# Altium schematic symbol library Relay.SchLib: 29 symbols
Pins are listed as number, name and electrical type; pins without a type are passive.

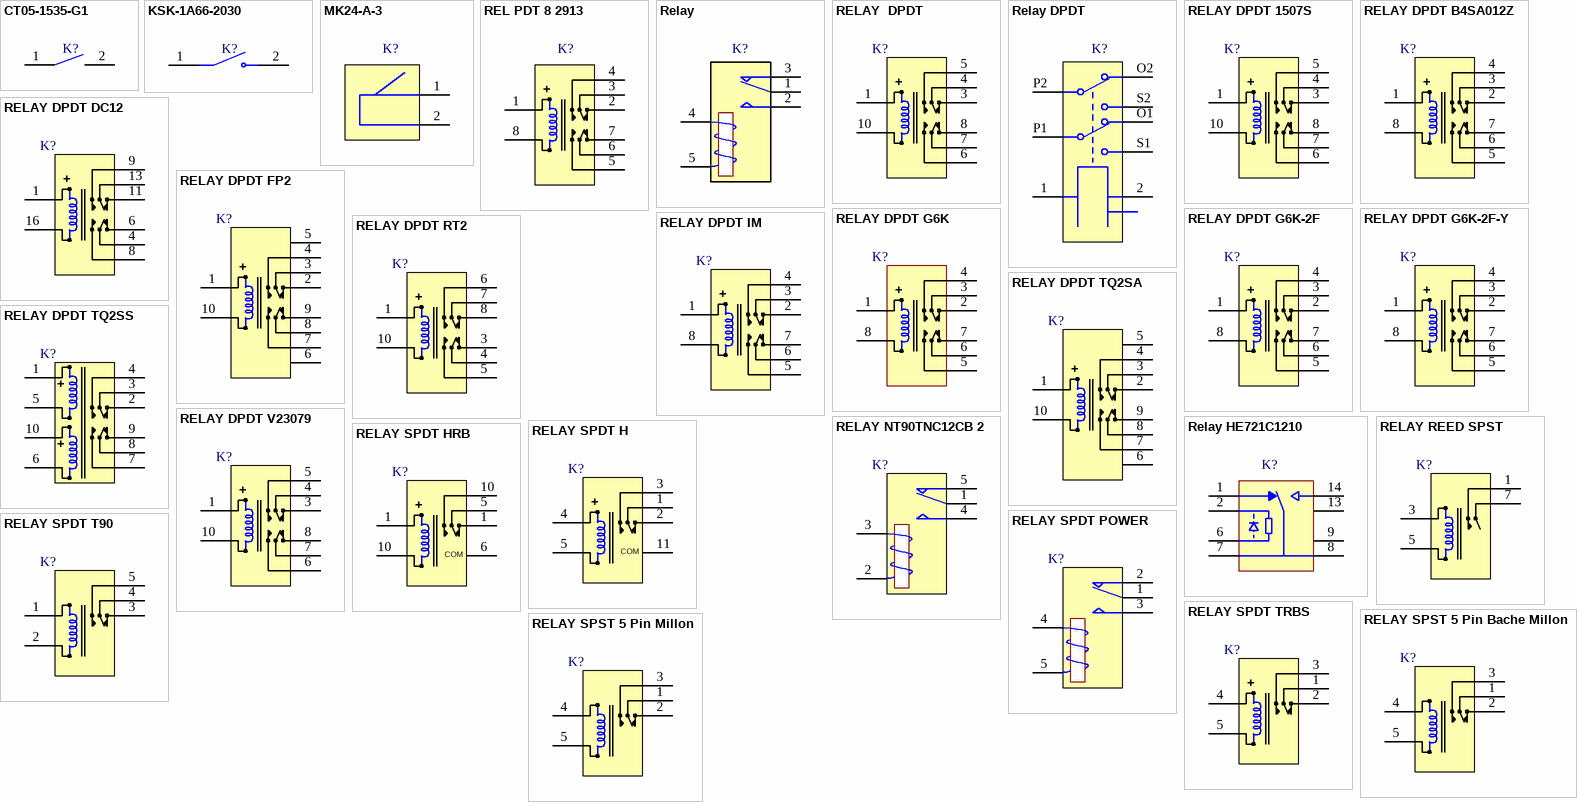
[diagram p0: symbols CT05-1535-G1 to RELAY SPST 5 Pin Millon]

## CT05-1535-G1
designator K?
Molded Body Reed Switch SPST-NO 15 ~ 35AT Operate Range 5W 250mA (AC), 350mA (DC) 100V Surface Mount; DatasheetVersion: 2022
pins: 1, 2

## KSK-1A66-2030
designator K?
Glass Body Reed Switch SPST-NO 20 ~ 30AT Operate Range 10W 500mA _AC/DC_ 180V Through Hole; DatasheetVersion: 2022
pins: 1, 2

## MK24-A-3
designator K?
Molded Body Reed Switch SPST-NO 23 ~ 50AT Operate Range 1W 100mA _AC/DC_ 30V Surface Mount; DatasheetVersion: 2022
pins: 1, 2

## REL PDT 8 2913
designator K?
DatasheetVersion: 2022
pins: 1 T1, 2 NC1, 3 COM1, 4 NO1, 5 NO2, 6 COM2, 7 NC1, 8 T2

## Relay
designator K?
SPDT Relay; DatasheetVersion: 2022; ComponentLinkp-URL: https://www.smartw.ir/
pins: 1 COM, 2 NO, 3 NC, 4 T1, 5 T2

## RELAY  DPDT
designator K?
Relay; ComponentLinkp-URL: https://www.smartw.ir/; DatasheetVersion: 2022
pins: 1 T1, 3 NC1, 4 COM1, 5 NO1, 6 NO2, 7 COM2, 8 NC1, 10 T2

## Relay DPDT
designator K?
Dual-Pole Dual-Throw Relay; ComponentLinkp-URL: https://www.smartw.ir/; DatasheetVersion: 2022
pins: 1, 2, O1, O2, P1, P2, S1, S2

## RELAY DPDT 1507S
designator K?
Relay; ComponentLinkp-URL: https://www.smartw.ir/; DatasheetVersion: 2022
pins: 1 T1, 3 NC1, 4 COM1, 5 NO1, 6 NO2, 7 COM2, 8 NC1, 10 T2

## RELAY DPDT B4SA012Z
designator K?
Relay; DatasheetVersion: 2022; ComponentLinkp-URL: https://www.smartw.ir/
pins: 1 T1, 2 NC1, 3 COM1, 4 NO1, 5 NO2, 6 COM2, 7 NC1, 8 T2

## RELAY DPDT DC12
designator K?
Relay; ComponentLinkp-URL: https://www.smartw.ir/; DatasheetVersion: 2022
pins: 1 T1, 4 COM2, 6 NC1, 8 NO2, 9 NO1, 11 NC1, 13 COM1, 16 T2

## RELAY DPDT FP2
designator K?
Relay; ComponentLinkp-URL: https://www.smartw.ir/; DatasheetVersion: 2022
pins: 1 T1, 2 NC1, 3 COM1, 4 NO1, 5 NO2, 6 NO2, 7 NO2, 8 COM2, 9 NC1, 10 T2

## RELAY DPDT G6K
designator K?
Relay; ComponentLinkp-URL: https://www.smartw.ir/; DatasheetVersion: 2022
pins: 1 T1, 2 NC1, 3 COM1, 4 NO1, 5 NO2, 6 COM2, 7 NC1, 8 T2

## RELAY DPDT G6K-2F
designator K?
Relay; ComponentLinkp-URL: https://www.smartw.ir/; DatasheetVersion: 2022
pins: 1 T1, 2 NC1, 3 COM1, 4 NO1, 5 NO2, 6 COM2, 7 NC1, 8 T2

## RELAY DPDT G6K-2F-Y
designator K?
Relay; ComponentLinkp-URL: https://www.smartw.ir/; DatasheetVersion: 2022
pins: 1 T1, 2 NC1, 3 COM1, 4 NO1, 5 NO2, 6 COM2, 7 NC1, 8 T2

## RELAY DPDT IM
designator K?
Relay; ComponentLinkp-URL: https://www.smartw.ir/; DatasheetVersion: 2022
pins: 1 T1, 2 NC1, 3 COM1, 4 NO1, 5 NO2, 6 COM2, 7 NC1, 8 T2

## RELAY DPDT RT2
designator K?
Relay; ComponentLinkp-URL: https://www.smartw.ir/; DatasheetVersion: 2022
pins: 1 T1, 3 NC1, 4 COM2, 5 NO2, 6 NO1, 7 COM1, 8 NC1, 10 T2

## RELAY DPDT TQ2SA
designator K?
Relay; DatasheetVersion: 2022; ComponentLinkp-URL: https://www.smartw.ir/
pins: 1 T1, 2 NC1, 3 COM1, 4 NO1, 5 NO2, 6 NO2, 7 NO2, 8 COM2, 9 NC1, 10 T2

## RELAY DPDT TQ2SS
designator K?
Relay; ComponentLinkp-URL: https://www.smartw.ir/; DatasheetVersion: 2022
pins: 1 T11, 2 NC1, 3 COM1, 4 NO1, 5 T12, 6 T22, 7 NO2, 8 COM2, 9 NC1, 10 T21

## RELAY DPDT V23079
designator K?
Relay; DatasheetVersion: 2022; ComponentLinkp-URL: https://www.smartw.ir/
pins: 1 T1, 3 NC1, 4 COM1, 5 NO1, 6 NO2, 7 COM2, 8 NC1, 10 T2

## Relay HE721C1210
designator K?
RELAY REED SPDT 250MA 12V; DatasheetVersion: 2022
pins: 1, 2, 6, 7, 8, 9, 13, 14

## RELAY NT90TNC12CB 2
designator K?
Relay; ComponentLinkp-URL: https://www.smartw.ir/; DatasheetVersion: 2022
pins: 1 COM, 2 T2, 3 T1, 4 NO, 5 NC

## RELAY REED SPST
designator K?
Relay; ComponentLinkp-URL: https://www.smartw.ir/; DatasheetVersion: 2022
pins: 1 NO, 3 T1, 5 T2, 7 COM

## RELAY SPDT H
designator K?
Relay; ComponentLinkp-URL: https://www.smartw.ir/; DatasheetVersion: 2022
pins: 1 COM, 2 NC, 3 NO, 4 T1, 5 T2, 11 COM

## RELAY SPDT HRB
designator K?
Relay; DatasheetVersion: 2022; ComponentLinkp-URL: https://www.smartw.ir/
pins: 1 NC, 1 T1, 5 COM, 6 COM, 10 NO, 10 T2

## RELAY SPDT POWER
designator K?
Relay; ComponentLinkp-URL: https://www.smartw.ir/; DatasheetVersion: 2022
pins: 1 COM, 2 NC, 3 NO, 4 T1, 5 T2

## RELAY SPDT T90
designator K?
Relay; ComponentLinkp-URL: https://www.smartw.ir/; DatasheetVersion: 2022
pins: 1 T1, 2 T2, 3 NC, 4 COM, 5 NO

## RELAY SPDT TRBS
designator K?
Relay; ComponentLinkp-URL: https://www.smartw.ir/; DatasheetVersion: 2022
pins: 1 COM, 2 NC, 3 NO, 4 T1, 5 T2

## RELAY SPST 5 Pin Bache Millon
designator K?
Relay; ComponentLinkp-URL: https://www.smartw.ir/; DatasheetVersion: 2022
pins: 1 COM, 2 NC, 3 NO, 4 T1, 5 T2

## RELAY SPST 5 Pin Millon
designator K?
Relay; ComponentLinkp-URL: https://www.smartw.ir/; DatasheetVersion: 2022
pins: 1 COM, 2 NC, 3 NO, 4 T1, 5 T2